# Altium schematic symbol library Nano_Schlib.SchLib: 19 symbols
Pins are listed as number, name and electrical type; pins without a type are passive.

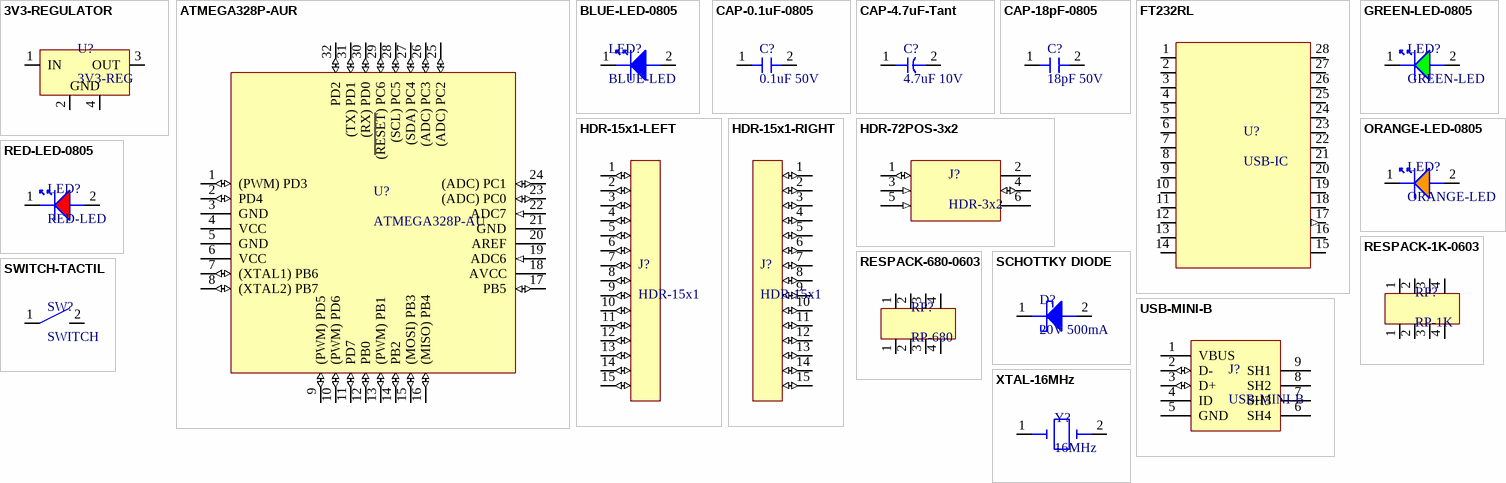
[diagram p0: symbols 3V3-REGULATOR to XTAL-16MHz]

## 3V3-REGULATOR
designator U?, comment 3V3-REG
500-mA, 30-V, linear voltage regulator 4-SOT-223 0 to 125; Manufacturer: Texas Instruments; Manufacturer Part Number: UA78M05CDCYRG3; Output Voltage: 5V; Dropout Voltage: 2V; Number of Outputs: 1; Min Input Voltage: 7V; Max Supply Voltage: 25V; Max Output current: 500mA; Polarity: Positive; Power Supply Rejection Ratio (PSRR): 80dB; Quiescent Current: 4.5mA; Output Type: Fixed; Supplier: Digi-Key; Supplier Part Number: 296-50456-1-ND; RoHS: Yes; Category: Voltage Regulators - Linear; Stock: 3750; Pricing: 1=0.68, 10=0.597, 25=0.5608, 100=0.4576, 250=0.42504, 500=0.36174, 1000=0.28939 (USD); Mounting Technology: Surface Mount; Case/Package: SOT-223-4; Pins: 4; Weight: 0.006632oz; Min Operating Temperature: -40°C; Max Operating Temperature: 125°C; Package Quantity: 2500; Packaging: Tape and Reel; Output Current: 500mA; Number of Regulators: 1; Series: UA78M05; Lead Free: Lead Free; RoHS Compliant: Yes; ComponentLink1URL: https://datasheet.ciiva.com/2060/ua78m05-2060145.pdf?src-supplier=Digi-Key; ComponentLink1Description: https://datasheet.ciiva.com/2060/ua78m05-2060145.pdf?src-supplier=Digi-Key
pins: 1 IN, 2 GND1, 3 OUT, 4 GND2
text: GND

## ATMEGA328P-AUR
designator U?, comment ATMEGA328P-AU
AVR AVR® ATmega Microcontroller IC 8-Bit 20MHz 32KB (16K x 16) FLASH 32-TQFP (7x7); Manufacturer: Microchip; Manufacturer Part Number: ATMEGA328P-AUR; Interface: I2C,SPI,UART,USART; Oscillator Type: Internal; Peripherals: Brown-out Detect/Reset,POR,PWM,WDT; Number of I/Os: 23; Core Architecture: PIC; Supplier: Digi-Key; Supplier Part Number: ATMEGA328P-AURCT-ND; RoHS: Yes; Category: Microcontrollers; Stock: 116906; Pricing: 1=2.88, 25=2.6672, 100=2.478 (USD); Mounting Technology: Surface Mount; Case/Package: TQFP; Pins: 32; Min Operating Temperature: -40°C; Max Operating Temperature: 85°C; Packaging: Cut Tape; Memory Format: FLASH; Memory Size: 32KB; Series: PIC® 18F; RoHS Compliant: Yes; ComponentLink1URL: http://components.arrow.com/part/dataview/48719204S8832641N3744?src-supplier=Arrow+Electronics; ComponentLink1Description: http://components.arrow.com/part/dataview/48719204S8832641N3744?src-supplier=Arrow+Electronics; ComponentLink2URL: http://www.farnell.com/datasheets/2047852.pdf?src-supplier=Farnell; ComponentLink2Description: http://www.farnell.com/datasheets/2047852.pdf?src-supplier=Farnell; ComponentLink3URL: http://www.microchip.com/mymicrochip/filehandler.aspx?ddocname=en608326&src-supplier=Digi-Key; ComponentLink3Description: http://www.microchip.com/mymicrochip/filehandler.aspx?ddocname=en608326&src-supplier=Digi-Key; ComponentLink4URL: http://www.microchip.com/mymicrochip/filehandler.aspx?ddocname=en589968&src-supplier=Digi-Key; ComponentLink4Description: http://www.microchip.com/mymicrochip/filehandler.aspx?ddocname=en589968&src-supplier=Digi-Key; ComponentLink5URL: http://www.farnell.com/datasheets/2047852.pdf?src-supplier=Element14; ComponentLink5Description: http://www.farnell.com/datasheets/2047852.pdf?src-supplier=Element14; ComponentLink6URL: https://datasheet.octopart.com/ATMEGA328P-AUR-Microchip-datasheet-14421303.pdf?src-supplier=Newark; ComponentLink6Description: https://datasheet.octopart.com/ATMEGA328P-AUR-Microchip-datasheet-14421303.pdf?src-supplier=Newark; ComponentLink7URL: http://www.farnell.com/datasheets/1693866.pdf?src-supplier=Newark; ComponentLink7Description: http://www.farnell.com/datasheets/1693866.pdf?src-supplier=Newark; ComponentLink8URL: https://datasheet.octopart.com/ATMEGA328P-AUR-Microchip-datasheet-133520744.pdf?src-supplier=LKR; ComponentLink8Description: https://datasheet.octopart.com/ATMEGA328P-AUR-Microchip-datasheet-133520744.pdf?src-supplier=LKR; ComponentLink9URL: https://datasheet.octopart.com/ATMEGA328P-AUR-Microchip-datasheet-68295846.pdf?src-supplier=SHENGYU+ELECTRONICS; ComponentLink9Description: https://datasheet.octopart.com/ATMEGA328P-AUR-Microchip-datasheet-68295846.pdf?src-supplier=SHENGYU+ELECTRONICS
footprint ATMEGA328P-AUR (CQFP, 32-Leads, Body 9.00x9.00mm, Pitch 0.80mm, IPC Medium Density)
pins: 1 (PWM) PD3 (io) "(PCINT19/OC2B/INT1)", 2 PD4 (io), 3 GND (power), 4 VCC (power), 5 GND (power), 6 VCC (power), 7 (XTAL1) PB6 (io), 8 (XTAL2) PB7 (io), 9 (PWM) PD5 (io), 10 (PWM) PD6 (io), 11 PD7 (io), 12 PB0 (io), 13 (PWM) PB1 (io), 14 PB2 (io), 15 (MOSI) PB3 (io), 16 (MISO) PB4 (io), 17 PB5 (io), 18 AVCC (power), 19 ADC6 (in), 20 AREF (power), 21 GND (power), 22 ADC7 (in), 23 (ADC) PC0 (io), 24 (ADC) PC1 (io), 25 (ADC) PC2 (io), 26 (ADC) PC3 (io), 27 (SDA) PC4 (io), 28 (SCL) PC5 (io), 29 (~{RESET}) PC6 (io), 30 (RX) PD0 (io), 31 (TX) PD1 (io), 32 PD2 (io)

## BLUE-LED-0805
designator LED?, comment BLUE-LED
APT2012QBC/D Blue LED; 465 nm 2012 (0805) Clear; Rectangle Lens SMD package; Manufacturer: Kingbright; Lens Color: Colorless,Clear; Forward Voltage: 3.3V; Viewing Angle: 120°; Lens Style: Flat,Clear; Forward Current: 20mA; Luminous Intensity: 100mcd; Dominant Wavelength: 465nm; Number of LEDs: 1; Supplier: Digi-Key; Supplier Part Number: 754-1437-1-ND; Manufacturer Part Number: APT2012QBC/D; RoHS: Yes; Category: LEDs; Stock: 36160; Pricing: 1=0.57, 10=0.354, 100=0.2033, 1000=0.15912 (USD); Mounting Technology: Surface Mount; Case/Package: 0805; Pins: 2; Color: Blue; Case Code (Metric): 2012; Case Code (Imperial): 0805; Min Operating Temperature: -40°C; Max Operating Temperature: 85°C; Package Quantity: 2000; Packaging: Tape and Reel; Illumination Color: Blue; Lens Transparency: Clear; Test Current: 20mA; Series: HELI2; Length: 2mm; Width: 1.25mm; Height: 0.75mm; Lead Free: Lead Free; RoHS Compliant: Yes; ComponentLink1URL: https://datasheet.ciiva.com/2114/apt2012qbc-d-2114342.pdf?src-supplier=Digi-Key; ComponentLink1Description: https://datasheet.ciiva.com/2114/apt2012qbc-d-2114342.pdf?src-supplier=Digi-Key; ComponentLink2URL: https://datasheet.ciiva.com/4689/apt2012qbc-d-72212-4689118.pdf?src-supplier=Mouser; ComponentLink2Description: https://datasheet.ciiva.com/4689/apt2012qbc-d-72212-4689118.pdf?src-supplier=Mouser; ComponentLink3URL: https://datasheet.ciiva.com/16415/apt2012qbc-d-16415447.pdf?src-supplier=Future+Electronics; ComponentLink3Description: https://datasheet.ciiva.com/16415/apt2012qbc-d-16415447.pdf?src-supplier=Future+Electronics; ComponentLink4URL: https://datasheet.ciiva.com/2114/apt2012qbc-d-2114343.pdf?src-supplier=Digi-Key; ComponentLink4Description: https://datasheet.ciiva.com/2114/apt2012qbc-d-2114343.pdf?src-supplier=Digi-Key; ComponentLink5URL: https://datasheet.ciiva.com/2114/apt2012qbc-d-2114344.pdf?src-supplier=Digi-Key; ComponentLink5Description: https://datasheet.ciiva.com/2114/apt2012qbc-d-2114344.pdf?src-supplier=Digi-Key
pins: 1, 2

## CAP-0.1uF-0805
designator C?, comment 0.1uF 50V
CAP CER 0.1UF 50V X7R 0805; Manufacturer: Samsung; Manufacturer Part Number: CL21B104KBCNNNC; Material: Ceramic; Tolerance: 10%; Value: 100nF; Supplier: Digi-Key; Supplier Part Number: 1276-1003-1-ND; RoHS: Yes; Category: Ceramic Capacitors; Stock: 959764; Pricing: 1=0.1, 10=0.044, 50=0.024, 100=0.0196, 500=0.01404, 1000=0.01103 (USD); Mounting Technology: Surface Mount; Case/Package: 0805; Case Code (Metric): 2012; Case Code (Imperial): 0805; Min Operating Temperature: -55°C; Max Operating Temperature: 125°C; Packaging: Tape and Reel; Voltage Rating: 50V; Dielectric: X7R; Voltage: 50V; Voltage Rating (DC): 50V; Series: CL; Construction: Flat; Length: 2mm; Width: 0.049inch; Height: 0.85mm; Thickness: 0.037inch; Depth: 1.25mm; Radiation Hardening: No; Lead Free: Lead Free; RoHS Compliant: Yes; ComponentLink1URL: https://datasheet.ciiva.com/25710/cl21b104kbcnnnc-25710182.pdf?src-supplier=Digi-Key; ComponentLink1Description: https://datasheet.ciiva.com/25710/cl21b104kbcnnnc-25710182.pdf?src-supplier=Digi-Key; ComponentLink2URL: https://datasheet.ciiva.com/29199/454152-da-01-en-vs-kondensator-0805-29199814.pdf?src-supplier=Conrad; ComponentLink2Description: https://datasheet.ciiva.com/29199/454152-da-01-en-vs-kondensator-0805-29199814.pdf?src-supplier=Conrad
pins: 1, 2

## CAP-4.7uF-Tant
designator C?, comment 4.7uF 10V
Cap Tant Solid 4.7uF 10V A CASE 10% (3.2 X 1.6 X 1.6mm) Inward L SMD 3216-18 4 Ohm 125C Automotive T/R; Manufacturer: KEMET; Manufacturer Part Number: T491A475K010AT7280; ESR (Equivalent Series Resistance): 5R; Supplier: Digi-Key; Supplier Part Number: 399-18026-1-ND; RoHS: Yes; Category: Tantalum Capacitors; Stock: 15725; Pricing: 1=0.44, 10=0.309, 50=0.2332, 100=0.2032, 500=0.15048, 1000=0.12792, 2500=0.12039 (USD); Case/Package: 1206; Case Code (Imperial): 1206; Case Code (Metric): 3216; Weight: 0.000571oz; Min Operating Temperature: -55°C; Max Operating Temperature: 125°C; Voltage Rating: 10V; Tolerance: 10%; Packaging: Tape and Reel; Value: 4.7uF; Termination: SMD/SMT; Series: T491; Construction: Flat; Length: 3.2mm; Width: 1.6mm; Height: 1.8mm; Depth: 1.6mm; Radiation Hardening: No; Lead Free: Lead Free; RoHS Compliant: Yes; ComponentLink1URL: https://datasheet.ciiva.com/12885/kem-t2005-t491-12885625.pdf?src-supplier=Mouser; ComponentLink1Description: https://datasheet.ciiva.com/12885/kem-t2005-t491-12885625.pdf?src-supplier=Mouser
pins: 1, 2

## CAP-18pF-0805
designator C?, comment 18pF 50V
Cap Cer 0805 18PF 50V Ultra Stab; Manufacturer: KEMET; Manufacturer Part Number: C0805C180J5HAC7800; Supplier: Digi-Key; Supplier Part Number: 399-C0805C180J5HAC7800CT-ND; RoHS: Yes; Category: Ceramic Capacitors; Stock: 27661; Pricing: 1=0.1, 10=0.073, 50=0.04, 100=0.0327, 500=0.02334, 1000=0.01833 (USD)
pins: 1, 2

## FT232RL
designator U?, comment USB-IC
IC USB FS SERIAL UART 28-SSOP; Manufacturer: FTDI; Manufacturer Part Number: FT232RL-REEL; Interface: UART,RS-232,RS-422,RS-485; Number of Channels: 1; Max Supply Voltage: 5.25V; Min Supply Voltage: 3.3V; Data Rate: 12Mbps; Operating Supply Current: 15mA; Voltage: 5V; Supplier: Digi-Key; Supplier Part Number: 768-1007-1-ND; RoHS: Yes; Category: Interface ICs; Pricing: 1=4.8, 10=4.35, 50=4.15, 100=3.95, 250=3.55, 500=3.15, 1000=2.95 (USD); Mounting Technology: Surface Mount; Case/Package: SSOP; Pins: 28; Weight: 0.080001oz; Min Operating Temperature: -40°C; Max Operating Temperature: 85°C; Packaging: Tape and Reel; Package Quantity: 1; Series: USBmadeEZ-UART; Number of Transceivers: 1; Length: 10.2mm; Width: 5.3mm; Height: 1.75mm; Radiation Hardening: No; Reach SVHC Compliant: No; Lead Free: Lead Free; RoHS Compliant: Yes; ComponentLink1URL: https://datasheet.ciiva.com/4787/ds-ft232r-11534-4787658.pdf?src-supplier=Mouser; ComponentLink1Description: https://datasheet.ciiva.com/4787/ds-ft232r-11534-4787658.pdf?src-supplier=Mouser; ComponentLink2URL: https://datasheet.ciiva.com/34304/2161019-34304054.pdf?src-supplier=Jameco; ComponentLink2Description: https://datasheet.ciiva.com/34304/2161019-34304054.pdf?src-supplier=Jameco; ComponentLink3URL: https://datasheet.ciiva.com/16200/ds-ft232r-16200652.pdf?src-supplier=Future+Electronics; ComponentLink3Description: https://datasheet.ciiva.com/16200/ds-ft232r-16200652.pdf?src-supplier=Future+Electronics; ComponentLink4URL: https://datasheet.ciiva.com/1787/ds-ft232r-1787047.pdf?src-supplier=Digi-Key; ComponentLink4Description: https://datasheet.ciiva.com/1787/ds-ft232r-1787047.pdf?src-supplier=Digi-Key; ComponentLink5URL: https://datasheet.ciiva.com/1787/ds-ft232r-1787048.pdf?src-supplier=Digi-Key; ComponentLink5Description: https://datasheet.ciiva.com/1787/ds-ft232r-1787048.pdf?src-supplier=Digi-Key; ComponentLink6URL: https://datasheet.ciiva.com/1787/ds-ft232r-1787049.pdf?src-supplier=Digi-Key; ComponentLink6Description: https://datasheet.ciiva.com/1787/ds-ft232r-1787049.pdf?src-supplier=Digi-Key; ComponentLink7URL: https://datasheet.ciiva.com/15150/getdatasheetpartid-643207-15150506.pdf?src-supplier=Verical; ComponentLink7Description: https://datasheet.ciiva.com/15150/getdatasheetpartid-643207-15150506.pdf?src-supplier=Verical
pins: 1 TXD, 2 DTR#, 3 RTS#, 4 VCCIO, 5 RXD, 6 RI#, 7 GND1 (power), 8 NC1, 9 DSR#, 10 DCD#, 11 CTS#, 12 CBUS4, 13 CBUS2, 14 CBUS3, 15 USBDP, 16 USBDM, 17 3V3OUT (out), 18 GND2 (power), 19 RESET#, 20 VCC (power), 21 GND3 (power), 22 CBUS1, 23 CBUS0, 24 NC2, 25 AGND (power), 26 TEST, 27 OSCI, 28 OSCO

## GREEN-LED-0805
designator LED?, comment GREEN-LED
APT2012SGC Green LED; 568 nm 2012 (0805) Clear; Rectangle Lens SMD package; Manufacturer: Kingbright; Lens Color: Colorless,Clear; Viewing Angle: 120°; Lens Style: Clear,Flat; Forward Current: 20mA; Forward Voltage: 2.2V; Power Rating: 62.5mW; Luminous Intensity: 12mcd; Dominant Wavelength: 568nm; Number of LEDs: 1; Lens Size: 1.25mm; Supplier: Digi-Key; Supplier Part Number: 754-1131-1-ND; Manufacturer Part Number: APT2012SGC; RoHS: Yes; Category: LEDs; Stock: 165570; Pricing: 1=0.3, 10=0.237, 100=0.1064, 500=0.0961, 1000=0.07894 (USD); Mounting Technology: Surface Mount; Case/Package: 0805; Pins: 2; Color: Green; Case Code (Metric): 2012; Case Code (Imperial): 0805; Min Operating Temperature: -40°C; Max Operating Temperature: 85°C; Package Quantity: 2000; Packaging: Tape and Reel; Illumination Color: Green; Test Current: 20mA; Wavelength: 568nm; Series: -; Lens Transparency: Clear; Length: 2mm; Width: 1.25mm; Height: 0.75mm; Lead Free: Lead Free; RoHS Compliant: Yes; ComponentLink1URL: https://datasheet.ciiva.com/4689/apt2012sgc-36968-4689173.pdf?src-supplier=Mouser; ComponentLink1Description: https://datasheet.ciiva.com/4689/apt2012sgc-36968-4689173.pdf?src-supplier=Mouser; ComponentLink2URL: https://datasheet.ciiva.com/2113/apt2012sgc-2113809.pdf?src-supplier=Digi-Key; ComponentLink2Description: https://datasheet.ciiva.com/2113/apt2012sgc-2113809.pdf?src-supplier=Digi-Key; ComponentLink3URL: https://datasheet.ciiva.com/16293/apt2012sgc-16293319.pdf?src-supplier=Future+Electronics; ComponentLink3Description: https://datasheet.ciiva.com/16293/apt2012sgc-16293319.pdf?src-supplier=Future+Electronics; ComponentLink4URL: https://datasheet.ciiva.com/2113/apt2012sgc-2113810.pdf?src-supplier=Digi-Key; ComponentLink4Description: https://datasheet.ciiva.com/2113/apt2012sgc-2113810.pdf?src-supplier=Digi-Key; ComponentLink5URL: https://datasheet.ciiva.com/2113/apt2012sgc-2113811.pdf?src-supplier=Digi-Key; ComponentLink5Description: https://datasheet.ciiva.com/2113/apt2012sgc-2113811.pdf?src-supplier=Digi-Key
pins: 1, 2

## HDR-15x1-LEFT
designator J?, comment HDR-15x1
Conn Unshrouded Header HDR 36 POS 2.54mm Solder ST Top Entry Thru-Hole BergStik® Bulk; Manufacturer: Amphenol ICC / FCI; Manufacturer Part Number: 68000-136HLF; Current Rating: 3A; Voltage Rating: 1.5kV; Number of Positions: 36; Insulation Resistance: 5GR; Gender: Male; Contact Post Length: 2.41mm; Supplier: Digi-Key; Supplier Part Number: 609-3501-ND; RoHS: Yes; Category: Headers and Wire Housings; Stock: 97; Pricing: 1=2.27, 10=1.979, 100=1.7685, 500=1.47374, 1000=1.26321, 5000=1.12004 (USD); Mounting Technology: Through Hole; Contact Plating: Gold,GXT; Contact Material: Bronze; Color: Black; Housing Color: Black; Housing Material: Thermoplastic; Min Operating Temperature: -65°C; Max Operating Temperature: 125°C; Number of Rows: 1; Package Quantity: 100; Packaging: Bulk; Contact Gender: Male; Termination: Solder; Max Voltage Rating (AC): 1.5kV; Number of Contacts: 36; Orientation: Straight; Series: BERGSTIK® II, MezzSelect™, Basics+; Contact Type: Male Pin; Length: 91.44mm; Pitch: 2.54mm; Contact Mating Length: 0.23inch; Depth: 2.41mm; Lead Free: Lead Free; Flammability Rating: UL94 V-0; ComponentLink1URL: https://datasheet.ciiva.com/10118/68000-10118998.pdf?src-supplier=Avnet; ComponentLink1Description: https://datasheet.ciiva.com/10118/68000-10118998.pdf?src-supplier=Avnet; ComponentLink2URL: https://datasheet.ciiva.com/720/68000-720036.pdf?src-supplier=Digi-Key; ComponentLink2Description: https://datasheet.ciiva.com/720/68000-720036.pdf?src-supplier=Digi-Key
pins: 1 (io), 2 (io), 3 (io), 4 (io), 5 (io), 6 (io), 7 (io), 8 (io), 9 (io), 10 (io), 11 (io), 12 (io), 13 (io), 14 (io), 15 (io)

## HDR-15x1-RIGHT
designator J?, comment HDR-15x1
Conn Unshrouded Header HDR 36 POS 2.54mm Solder ST Top Entry Thru-Hole BergStik® Bulk; Manufacturer: Amphenol ICC / FCI; Manufacturer Part Number: 68000-136HLF; Current Rating: 3A; Voltage Rating: 1.5kV; Number of Positions: 36; Insulation Resistance: 5GR; Gender: Male; Contact Post Length: 2.41mm; Supplier: Digi-Key; Supplier Part Number: 609-3501-ND; RoHS: Yes; Category: Headers and Wire Housings; Stock: 97; Pricing: 1=2.27, 10=1.979, 100=1.7685, 500=1.47374, 1000=1.26321, 5000=1.12004 (USD); Mounting Technology: Through Hole; Contact Plating: Gold,GXT; Contact Material: Bronze; Color: Black; Housing Color: Black; Housing Material: Thermoplastic; Min Operating Temperature: -65°C; Max Operating Temperature: 125°C; Number of Rows: 1; Package Quantity: 100; Packaging: Bulk; Contact Gender: Male; Termination: Solder; Max Voltage Rating (AC): 1.5kV; Number of Contacts: 36; Orientation: Straight; Series: BERGSTIK® II, MezzSelect™, Basics+; Contact Type: Male Pin; Length: 91.44mm; Pitch: 2.54mm; Contact Mating Length: 0.23inch; Depth: 2.41mm; Lead Free: Lead Free; Flammability Rating: UL94 V-0; ComponentLink1URL: https://datasheet.ciiva.com/10118/68000-10118998.pdf?src-supplier=Avnet; ComponentLink1Description: https://datasheet.ciiva.com/10118/68000-10118998.pdf?src-supplier=Avnet; ComponentLink2URL: https://datasheet.ciiva.com/720/68000-720036.pdf?src-supplier=Digi-Key; ComponentLink2Description: https://datasheet.ciiva.com/720/68000-720036.pdf?src-supplier=Digi-Key
pins: 1 (io), 2 (io), 3 (io), 4 (io), 5 (io), 6 (io), 7 (io), 8 (io), 9 (io), 10 (io), 11 (io), 12 (io), 13 (io), 14 (io), 15 (io)

## HDR-72POS-3x2
designator J?, comment HDR-3x2
Conn Unshrouded Header HDR 72 POS 2.54mm Solder ST Top Entry Thru-Hole BergStik® Bulk; Manufacturer: Amphenol ICC / FCI; Manufacturer Part Number: 67996-272HLF; Number of Positions: 72; Current Rating: 3A; Insulation Resistance: 5GR; Voltage Rating: 1.5kV; Row Spacing: 0.1inch; Contact Post Length: 2.41mm; Approvals: UL,CSA; Supplier: Digi-Key; Supplier Part Number: 609-3493-ND; RoHS: No; Category: Headers and Wire Housings; Stock: 2477; Pricing: 1=3.22, 10=2.924, 100=2.5759, 500=2.18952, 1000=1.86753, 5000=1.67434 (USD); Mounting Technology: Through Hole; Contact Plating: Gold,GXT; Color: Black; Contact Material: Bronze; Housing Material: Thermoplastic; Housing Color: Black; Min Operating Temperature: -65°C; Max Operating Temperature: 125°C; Series: BergStik; Packaging: Bulk; Contact Type: Male Pin; Number of Rows: 2; Termination: Solder; Contact Gender: Male; Package Quantity: 100; Number of Contacts: 72; Orientation: Straight; Max Voltage Rating (AC): 1.5kV; Length: 91.44mm; Pitch: 2.54mm; Contact Mating Length: 0.23inch; Depth: 4.83mm; Flammability Rating: UL94 V-0; Reach SVHC Compliant: No; ComponentLink1URL: http://uk.rs-online.com/webdocs/1450/0900766b81450b61.pdf?src-supplier=Rs; ComponentLink1Description: http://uk.rs-online.com/webdocs/1450/0900766b81450b61.pdf?src-supplier=Rs; ComponentLink2URL: http://portal.fciconnect.com/Comergent/fci/drawing/67996.pdf?src-supplier=Avnet; ComponentLink2Description: http://portal.fciconnect.com/Comergent/fci/drawing/67996.pdf?src-supplier=Avnet; ComponentLink3URL: https://datasheet.octopart.com/67996-272HLF-FCI-datasheet-10288749.pdf?src-supplier=Farnell; ComponentLink3Description: https://datasheet.octopart.com/67996-272HLF-FCI-datasheet-10288749.pdf?src-supplier=Farnell; ComponentLink4URL: https://www.alliedelec.com/m/d/a0f7a1aeec31fa744d37645d635f3042.pdf?src-supplier=Allied+Electronics; ComponentLink4Description: https://www.alliedelec.com/m/d/a0f7a1aeec31fa744d37645d635f3042.pdf?src-supplier=Allied+Electronics; ComponentLink5URL: http://components.arrow.com/part/dataview/41913610S7894672N8314?src-supplier=Arrow+Electronics; ComponentLink5Description: http://components.arrow.com/part/dataview/41913610S7894672N8314?src-supplier=Arrow+Electronics; ComponentLink6URL: http://portal.fciconnect.com/Comergent//fci/drawing/67996.pdf?src-supplier=Digi-Key; ComponentLink6Description: http://portal.fciconnect.com/Comergent//fci/drawing/67996.pdf?src-supplier=Digi-Key; ComponentLink7URL: http://portal.fciconnect.com/Comergent//fci/drawing/67996.pdf?src-supplier=Element14; ComponentLink7Description: http://portal.fciconnect.com/Comergent//fci/drawing/67996.pdf?src-supplier=Element14; ComponentLink8URL: http://www.mouser.com/ds/2/154/67996-225308.pdf?src-supplier=Mouser; ComponentLink8Description: http://www.mouser.com/ds/2/154/67996-225308.pdf?src-supplier=Mouser; ComponentLink9URL: https://datasheet.octopart.com/67996-272HLF-FCI-datasheet-36854132.pdf?src-supplier=Electro+Sonic; ComponentLink9Description: https://datasheet.octopart.com/67996-272HLF-FCI-datasheet-36854132.pdf?src-supplier=Electro+Sonic; ComponentLink10URL: https://datasheet.octopart.com/67996-272HLF-FCI-datasheet-36854132.pdf?src-supplier=Master+Electronics; ComponentLink10Description: https://datasheet.octopart.com/67996-272HLF-FCI-datasheet-36854132.pdf?src-supplier=Master+Electronics
pins: 1 (io), 2 (power), 3 (in), 4 (io), 5 (in), 6 (power)

## ORANGE-LED-0805
designator LED?, comment ORANGE-LED
APT2012SECK Orange LED; 601 nm 2012 (0805) Clear; Rectangle Lens SMD package; Manufacturer: Kingbright; Viewing Angle: 120°; Lens Style: Clear,Flat; Forward Current: 20mA; Forward Voltage: 2.1V; Power Rating: 75mW; Luminous Intensity: 240mcd; Dominant Wavelength: 601nm; Number of LEDs: 1; Supplier: Digi-Key; Supplier Part Number: 754-1130-1-ND; Manufacturer Part Number: APT2012SECK; RoHS: Yes; Category: LEDs; Stock: 19453; Pricing: 1=0.3, 10=0.237, 100=0.1064, 500=0.0961, 1000=0.07894 (USD); Mounting Technology: Surface Mount; Case/Package: 0805; Pins: 2; Color: Orange; Case Code (Metric): 2012; Case Code (Imperial): 0805; Lens Color: Clear; Min Operating Temperature: -40°C; Max Operating Temperature: 85°C; Package Quantity: 2000; Packaging: Tape and Reel; Illumination Color: Orange; Test Current: 20mA; Wavelength: 601nm; Series: APT; Length: 2mm; Width: 1.25mm; Height: 0.75mm; Lead Free: Lead Free; RoHS Compliant: Yes; ComponentLink1URL: https://datasheet.ciiva.com/12400/apt2012seck-43020-12400700.pdf?src-supplier=Mouser; ComponentLink1Description: https://datasheet.ciiva.com/12400/apt2012seck-43020-12400700.pdf?src-supplier=Mouser; ComponentLink2URL: https://datasheet.ciiva.com/2113/apt2012seck-2113858.pdf?src-supplier=Digi-Key; ComponentLink2Description: https://datasheet.ciiva.com/2113/apt2012seck-2113858.pdf?src-supplier=Digi-Key; ComponentLink3URL: https://datasheet.ciiva.com/2113/apt2012seck-2113859.pdf?src-supplier=Digi-Key; ComponentLink3Description: https://datasheet.ciiva.com/2113/apt2012seck-2113859.pdf?src-supplier=Digi-Key; ComponentLink4URL: https://datasheet.ciiva.com/2113/apt2012seck-2113860.pdf?src-supplier=Digi-Key; ComponentLink4Description: https://datasheet.ciiva.com/2113/apt2012seck-2113860.pdf?src-supplier=Digi-Key; ComponentLink5URL: https://datasheet.ciiva.com/14605/70062848-14605309.pdf?src-supplier=Allied+Electronics; ComponentLink5Description: https://datasheet.ciiva.com/14605/70062848-14605309.pdf?src-supplier=Allied+Electronics; ComponentLink6URL: https://datasheet.ciiva.com/16415/apt2012seck-16415421.pdf?src-supplier=Future+Electronics; ComponentLink6Description: https://datasheet.ciiva.com/16415/apt2012seck-16415421.pdf?src-supplier=Future+Electronics
pins: 1, 2

## RED-LED-0805
designator LED?, comment RED-LED
LED Low-Power Uni-Color Hyper Red 645nm 2.2V 2-Pin Chip LED T/R; Manufacturer: Kingbright; Manufacturer Part Number: APT2012SURCK; Power Rating: 75mW; Luminous Intensity: 220mcd; Viewing Angle: 120°; Lens Style: Clear; Forward Voltage: 1.95V; Forward Current: 20mA; Dominant Wavelength: 630nm; Wavelength: 635nm; Supplier: Digi-Key; Supplier Part Number: 754-1133-1-ND; RoHS: Yes; Category: LEDs; Stock: 56404; Pricing: 1=0.3, 10=0.237, 100=0.1064, 500=0.0961, 1000=0.07894 (USD); Mounting Technology: Surface Mount; Case/Package: 0805; Color: Red; Case Code (Metric): 2012; Case Code (Imperial): 0805; Min Operating Temperature: -40°C; Max Operating Temperature: 85°C; Packaging: Tape and Reel; Package Quantity: 2000; Illumination Color: Red; Test Current: 20mA; Length: 2mm; Width: 1.25mm; Height: 0.75mm; Lead Free: Lead Free; RoHS Compliant: Yes; ComponentLink1URL: https://datasheet.ciiva.com/16415/apt2012surck-16415425.pdf?src-supplier=Future+Electronics; ComponentLink1Description: https://datasheet.ciiva.com/16415/apt2012surck-16415425.pdf?src-supplier=Future+Electronics; ComponentLink2URL: https://datasheet.ciiva.com/4689/apt2012surck-41297-4689448.pdf?src-supplier=Mouser; ComponentLink2Description: https://datasheet.ciiva.com/4689/apt2012surck-41297-4689448.pdf?src-supplier=Mouser; ComponentLink3URL: https://datasheet.ciiva.com/2113/apt2012surck-2113835.pdf?src-supplier=Digi-Key; ComponentLink3Description: https://datasheet.ciiva.com/2113/apt2012surck-2113835.pdf?src-supplier=Digi-Key; ComponentLink4URL: https://datasheet.ciiva.com/2113/apt2012surck-2113836.pdf?src-supplier=Digi-Key; ComponentLink4Description: https://datasheet.ciiva.com/2113/apt2012surck-2113836.pdf?src-supplier=Digi-Key
pins: 1, 2

## RESPACK-1K-0603
designator RP?, comment RP-1K
Res Thick Film Array 1KOhm 5% 200ppm/C ISOL Epoxy 8-Pin 1206(4 X 0603) Convex SMD T/R; Manufacturer: Yageo; Manufacturer Part Number: YC164-JR-071KL; Temperature Coefficient: 200ppm/°C; Value: 1kR; Number of Resistors: 4; Working Voltage: 50V; Circuit Type: Isolated; Power Per Element: 62.5mW; Number of Contacts: 8; Supplier: Digi-Key; Supplier Part Number: YC164J-1.0KCT-ND; RoHS: Yes; Category: Resistor Arrays; Stock: 238696; Pricing: 1=0.1, 10=0.087, 25=0.0604, 50=0.047, 100=0.0336, 250=0.02624, 500=0.02086, 1000=0.0148 (USD); Mounting Technology: Surface Mount; Case/Package: 0603; Pins: 8; Case Code (Metric): 3216; Case Code (Imperial): 1206; Min Operating Temperature: -55°C; Max Operating Temperature: 155°C; Tolerance: 5%; Packaging: Cut Tape; Number of Circuits: 4; Voltage Rating: 50V; Number of Elements: 4; Package Quantity: 1; Power Dissipation: 62.5mW; Series: YC164; Technology: THICK FILM; Resistance Tolerance: 5%; Length: 0.126inch; Width: 0.063inch; Height: 0.028inch; RoHS Compliant: Yes; Lead Free: Lead Free; Reach SVHC Compliant: Unknown; ComponentLink1URL: https://datasheet.ciiva.com/7620/443424-7620735.pdf?src-supplier=Element14; ComponentLink1Description: https://datasheet.ciiva.com/7620/443424-7620735.pdf?src-supplier=Element14; ComponentLink2URL: https://datasheet.ciiva.com/2694/pyu-yc-tc164-51-rohs-l-3-2694463.pdf?src-supplier=Digi-Key; ComponentLink2Description: https://datasheet.ciiva.com/2694/pyu-yc-tc164-51-rohs-l-3-2694463.pdf?src-supplier=Digi-Key; ComponentLink3URL: https://datasheet.ciiva.com/2694/pyu-yc-tc164-51-rohs-l-3-2694464.pdf?src-supplier=Digi-Key; ComponentLink3Description: https://datasheet.ciiva.com/2694/pyu-yc-tc164-51-rohs-l-3-2694464.pdf?src-supplier=Digi-Key; ComponentLink4URL: https://datasheet.ciiva.com/2694/pyu-yc-tc164-51-rohs-l-3-2694465.pdf?src-supplier=Digi-Key; ComponentLink4Description: https://datasheet.ciiva.com/2694/pyu-yc-tc164-51-rohs-l-3-2694465.pdf?src-supplier=Digi-Key; ComponentLink5URL: https://datasheet.ciiva.com/17051/pyu-yc-tc164-51-rohs-l-3-17051807.pdf?src-supplier=Future+Electronics; ComponentLink5Description: https://datasheet.ciiva.com/17051/pyu-yc-tc164-51-rohs-l-3-17051807.pdf?src-supplier=Future+Electronics
pins: 1 1IN, 1 1OUT, 2 2IN, 2 2OUT, 3 3IN, 3 3OUT, 4 4IN, 4 4OUT

## RESPACK-680-0603
designator RP?, comment RP-680
Res Thick Film Array 680 Ohm 5% 200ppm/ C ISOL Molded 8-Pin 1206(4 X 0603) Convex SMD Paper T/R; Manufacturer: Yageo; Manufacturer Part Number: YC164-JR-07680RL; Value: 680R; Number of Elements: 4; Voltage Rating: 50V; Circuit Type: Isolated; Power Per Element: 62.5mW; Temperature Coefficient: 200ppm/°C; Number of Contacts: 8; Supplier: Digi-Key; Supplier Part Number: YC164J-680CT-ND; RoHS: Yes; Category: Resistor Arrays; Stock: 88798; Pricing: 1=0.1, 10=0.087, 25=0.0604, 50=0.047, 100=0.0336, 250=0.02624, 500=0.02086, 1000=0.0148 (USD); Mounting Technology: Surface Mount; Case/Package: 0603; Pins: 8; Case Code (Metric): 3216; Case Code (Imperial): 1206; Min Operating Temperature: -55°C; Max Operating Temperature: 155°C; Series: YC164; Tolerance: 5%; Package Quantity: 1; Packaging: Cut Tape; Number of Resistors: 4; Power Dissipation: 62.5mW; Working Voltage: 50V; Number of Circuits: 4; Resistance Tolerance: 5%; Length: 0.126inch; Width: 0.063inch; Height: 0.028inch; RoHS Compliant: Yes; Lead Free: Lead Free; Reach SVHC Compliant: Unknown; ComponentLink1URL: https://datasheet.ciiva.com/17201/pyu-yc-tc164-51-rohs-l-3-17201830.pdf?src-supplier=Future+Electronics; ComponentLink1Description: https://datasheet.ciiva.com/17201/pyu-yc-tc164-51-rohs-l-3-17201830.pdf?src-supplier=Future+Electronics; ComponentLink2URL: https://datasheet.ciiva.com/2688/pyu-yc-tc164-51-rohs-l-3-2688403.pdf?src-supplier=Digi-Key; ComponentLink2Description: https://datasheet.ciiva.com/2688/pyu-yc-tc164-51-rohs-l-3-2688403.pdf?src-supplier=Digi-Key; ComponentLink3URL: https://datasheet.ciiva.com/2688/pyu-yc-tc164-51-rohs-l-3-2688404.pdf?src-supplier=Digi-Key; ComponentLink3Description: https://datasheet.ciiva.com/2688/pyu-yc-tc164-51-rohs-l-3-2688404.pdf?src-supplier=Digi-Key; ComponentLink4URL: https://datasheet.ciiva.com/2688/pyu-yc-tc164-51-rohs-l-3-2688405.pdf?src-supplier=Digi-Key; ComponentLink4Description: https://datasheet.ciiva.com/2688/pyu-yc-tc164-51-rohs-l-3-2688405.pdf?src-supplier=Digi-Key
pins: 1 1IN, 1 1OUT, 2 2IN, 2 2OUT, 3 3IN, 3 3OUT, 4 4IN, 4 4OUT

## SCHOTTKY DIODE
designator D?, comment 20V 500mA
ON Semi NSR0520V2T1G; SMT Schottky Diode; 20V dc 500mA; 12ns; 2-Pin SOD-523; Manufacturer: ON Semiconductor; Max Surge Current: 2A; Forward Voltage: 480mV; Max Reverse Current: 30uA; Element Configuration: Single; Supplier: Digi-Key; Supplier Part Number: NSR0520V2T1GOSCT-ND; Manufacturer Part Number: NSR0520V2T1G; RoHS: Yes; Category: Schottky Diodes; Stock: 42323; Pricing: 1=0.43, 10=0.324, 100=0.1832, 500=0.12134, 1000=0.09303 (USD); Case/Package: SOD-523-2; Pins: 2; Min Operating Temperature: -55°C; Max Operating Temperature: 125°C; Forward Current: 500mA; Package Quantity: 3000; Recovery Time: 12ns; Packaging: Tape and Reel; Max Reverse Leakage Current: 30uA; Average Rectified Current: 500mA; Reverse Recovery Time: 12ns; Max Repetitive Reverse Voltage (Vrrm): 20V; Peak Non-Repetitive Surge Current: 2A; Max Forward Surge Current (Ifsm): 2A; Max Reverse Voltage (DC): 20V; Series: -; Length: 1.3mm; Width: 0.9mm; Height: 0.7mm; Radiation Hardening: No; Reach SVHC Compliant: No; Lead Free: Lead Free; RoHS Compliant: Yes; ComponentLink1URL: https://datasheet.ciiva.com/4244/567nsr0520v2t1-d-4244811.pdf?src-supplier=Arrow+Electronics; ComponentLink1Description: https://datasheet.ciiva.com/4244/567nsr0520v2t1-d-4244811.pdf?src-supplier=Arrow+Electronics; ComponentLink2URL: https://datasheet.ciiva.com/915/nsr0520v2t1-d-915544.pdf?src-supplier=Digi-Key; ComponentLink2Description: https://datasheet.ciiva.com/915/nsr0520v2t1-d-915544.pdf?src-supplier=Digi-Key; ComponentLink3URL: https://datasheet.ciiva.com/23721/1749675-23721976.pdf?src-supplier=Newark; ComponentLink3Description: https://datasheet.ciiva.com/23721/1749675-23721976.pdf?src-supplier=Newark; ComponentLink4URL: https://datasheet.ciiva.com/30479/0900766b81276b11-30479644.pdf?src-supplier=Rs; ComponentLink4Description: https://datasheet.ciiva.com/30479/0900766b81276b11-30479644.pdf?src-supplier=Rs; ComponentLink5URL: https://datasheet.ciiva.com/4713/nsr0520v2t1-d-118982-4713972.pdf?src-supplier=Mouser; ComponentLink5Description: https://datasheet.ciiva.com/4713/nsr0520v2t1-d-118982-4713972.pdf?src-supplier=Mouser; ComponentLink6URL: https://datasheet.ciiva.com/8293/nsr0520v2t1-d-8293885.pdf?src-supplier=Avnet; ComponentLink6Description: https://datasheet.ciiva.com/8293/nsr0520v2t1-d-8293885.pdf?src-supplier=Avnet
pins: 1, 2

## SWITCH-TACTIL
designator SW?, comment SWITCH
Switch Tactile N.O. SPST Round Button Gull Wing 0.05A 12VDC 1.5N SMD Embossed T/R; Manufacturer: Omron; Manufacturer Part Number: B3U-1000P; Mechanical Life: 200000Cycles; Voltage Rating (DC): 12V; Current Rating: 50mA; Contact Resistance: 100mR; Illumination Type: Non-Illuminated,Illuminated; Switch Travel: 0.15mm; Switch Function: Off-Mom; Actuator Type: Standard; Actuator Length: 0.4mm; Ratings: Dust Proof,IP40; Supplier: Digi-Key; Supplier Part Number: SW1020CT-ND; RoHS: Yes; Category: Tactile Switches; Stock: 66177; Pricing: 1=1.02, 10=0.983, 25=0.9188, 100=0.7977, 250=0.72584, 500=0.67292, 1000=0.62377 (USD); Mounting Technology: Surface Mount; Weight: 0.000776oz; Contact Material: Silver; Min Operating Temperature: -25°C; Max Operating Temperature: 70°C; Packaging: Tape and Reel; Package Quantity: 1; Series: B3U; Operating Force: 1.5N; Throw Configuration: SPST; Termination: SMD/SMT; Orientation: Straight; Max Current Rating: 50mA; Max Voltage Rating (DC): 12V; Electrical Life: 200000Cycles; Insulation Resistance: 100MR; Contact Current Rating: 50mA; Length: 4mm; Width: 3mm; Height: 1.2mm; Depth: 2.5mm; RoHS Compliant: Yes; Lead Free: Lead Free; Reach SVHC Compliant: Unknown; ComponentLink1URL: https://datasheet.ciiva.com/26917/getdatasheetpartid-552554-26917552.pdf?src-supplier=Verical; ComponentLink1Description: https://datasheet.ciiva.com/26917/getdatasheetpartid-552554-26917552.pdf?src-supplier=Verical; ComponentLink2URL: https://datasheet.ciiva.com/22696/1685550-22696214.pdf?src-supplier=Element14; ComponentLink2Description: https://datasheet.ciiva.com/22696/1685550-22696214.pdf?src-supplier=Element14; ComponentLink3URL: https://datasheet.ciiva.com/16155/en-b3u-16155021.pdf?src-supplier=Onlinecomponents.com; ComponentLink3Description: https://datasheet.ciiva.com/16155/en-b3u-16155021.pdf?src-supplier=Onlinecomponents.com; ComponentLink4URL: https://datasheet.ciiva.com/2900/b3u-1110-2900029.pdf?src-supplier=Digi-Key; ComponentLink4Description: https://datasheet.ciiva.com/2900/b3u-1110-2900029.pdf?src-supplier=Digi-Key; ComponentLink5URL: https://datasheet.ciiva.com/2900/b3u-1110-2900030.pdf?src-supplier=Digi-Key; ComponentLink5Description: https://datasheet.ciiva.com/2900/b3u-1110-2900030.pdf?src-supplier=Digi-Key; ComponentLink6URL: https://datasheet.ciiva.com/2900/b3u-1110-2900031.pdf?src-supplier=Digi-Key; ComponentLink6Description: https://datasheet.ciiva.com/2900/b3u-1110-2900031.pdf?src-supplier=Digi-Key; ComponentLink7URL: https://datasheet.ciiva.com/16862/70176037-16862846.pdf?src-supplier=Allied+Electronics; ComponentLink7Description: https://datasheet.ciiva.com/16862/70176037-16862846.pdf?src-supplier=Allied+Electronics; ComponentLink8URL: https://datasheet.ciiva.com/1634/1685550-1634396.pdf?src-supplier=Farnell; ComponentLink8Description: https://datasheet.ciiva.com/1634/1685550-1634396.pdf?src-supplier=Farnell; ComponentLink9URL: https://datasheet.ciiva.com/14142/b3u-eng-datasheet-14142540.pdf?src-supplier=Distrelec; ComponentLink9Description: https://datasheet.ciiva.com/14142/b3u-eng-datasheet-14142540.pdf?src-supplier=Distrelec; ComponentLink10URL: https://datasheet.ciiva.com/1532/1685550-1532680.pdf?src-supplier=Element14; ComponentLink10Description: https://datasheet.ciiva.com/1532/1685550-1532680.pdf?src-supplier=Element14
pins: 1, 2

## USB-MINI-B
designator J?
Conn Mini USB 2.0 Type B RCP 5 POS 0.8mm Solder RA SMD 5 Terminal 1 Port USB OTG T/R; Manufacturer: Molex; Manufacturer Part Number: 67503-1020; Gender: Receptacle; Current Rating: 1A; Connector Type: USB,Receptacle; Number of Ports: 1; Number of Contacts: 5; Shielding: Shielded; Contact Resistance: 50mR; Max Voltage Rating (DC): 3.03kV; Voltage Rating (AC): 30V; Insulation Resistance: 100MR; Data Rate: 480Mbps; USB Standard: USB 2.0; Number of Logic Blocks (LABs): 56480; Number of Logic Elements/Cells: 149500; RAM Size: 7880704b; Number of I/Os: 240; Glow Wire Compliant: Non-compliant; Supplier: Digi-Key; Supplier Part Number: WM5461CT-ND; RoHS: Yes; Category: Headers and Wire Housings; Stock: 18415; Pricing: 1=1.2, 10=0.993, 100=0.8272 (USD); Case/Package: BGA; Contact Plating: Gold; Insulation Color: Black; Contact Material: Bronze,Copper Alloy,Copper; Color: Black,Grey; Housing Material: Nylon; Min Operating Temperature: 0°C; Max Operating Temperature: 50°C; Termination: Solder; Packaging: Tape and Reel; Orientation: Right Angle; Package Quantity: 1; Voltage Rating: 30V; Max Voltage Rating (AC): 30V; Working Voltage: 30V; Number of Positions: 5; Number of Circuits: 5; Number of Rows: 1; Features: Shielded; Series: 67503; Length: 9.9mm; Width: 6.9mm; Pitch: 0.8mm; Depth: 9mm; Terminal Pitch: 0.8mm; Flammability Rating: UL94 V-0; RoHS Compliant: Yes; Lead Free: Lead Free; Reach SVHC Compliant: Unknown; ComponentLink1URL: https://datasheet.ciiva.com/10035/0675031020-io-connectors-10035283.pdf?src-supplier=Avnet; ComponentLink1Description: https://datasheet.ciiva.com/10035/0675031020-io-connectors-10035283.pdf?src-supplier=Avnet; ComponentLink2URL: https://datasheet.ciiva.com/4598/0675031020-io-connectors-172123-4598933.pdf?src-supplier=Mouser; ComponentLink2Description: https://datasheet.ciiva.com/4598/0675031020-io-connectors-172123-4598933.pdf?src-supplier=Mouser; ComponentLink3URL: https://datasheet.ciiva.com/11731/0900766b812b4bc6-11731385.pdf?src-supplier=Rs; ComponentLink3Description: https://datasheet.ciiva.com/11731/0900766b812b4bc6-11731385.pdf?src-supplier=Rs; ComponentLink4URL: https://datasheet.ciiva.com/1099/1827209-1099037.pdf?src-supplier=Element14; ComponentLink4Description: https://datasheet.ciiva.com/1099/1827209-1099037.pdf?src-supplier=Element14; ComponentLink5URL: https://datasheet.ciiva.com/26945/getdatasheetpartid-786372-26945705.pdf?src-supplier=Verical; ComponentLink5Description: https://datasheet.ciiva.com/26945/getdatasheetpartid-786372-26945705.pdf?src-supplier=Verical; ComponentLink6URL: https://datasheet.ciiva.com/16143/1693580675031020-io-nectors-16143316.pdf?src-supplier=Onlinecomponents.com; ComponentLink6Description: https://datasheet.ciiva.com/16143/1693580675031020-io-nectors-16143316.pdf?src-supplier=Onlinecomponents.com; ComponentLink7URL: https://datasheet.ciiva.com/3094/0675031020-io-connectors-3094391.pdf?src-supplier=Avnet; ComponentLink7Description: https://datasheet.ciiva.com/3094/0675031020-io-connectors-3094391.pdf?src-supplier=Avnet; ComponentLink8URL: https://datasheet.ciiva.com/46385/1862938-46385125.pdf?src-supplier=Element14; ComponentLink8Description: https://datasheet.ciiva.com/46385/1862938-46385125.pdf?src-supplier=Element14; ComponentLink9URL: https://datasheet.ciiva.com/46385/1739445-46385126.pdf?src-supplier=Element14; ComponentLink9Description: https://datasheet.ciiva.com/46385/1739445-46385126.pdf?src-supplier=Element14; ComponentLink10URL: https://datasheet.ciiva.com/15181/getdatasheetpartid-111434-15181162.pdf?src-supplier=Verical; ComponentLink10Description: https://datasheet.ciiva.com/15181/getdatasheetpartid-111434-15181162.pdf?src-supplier=Verical
pins: 1 VBUS (power), 2 D- (io), 3 D+ (io), 4 ID, 5 GND (power), 6 SH4 (power), 7 SH3 (power), 8 SH2 (power), 9 SH1 (power)

## XTAL-16MHz
designator Y?, comment 16MHz
Crystal 16MHz ±20ppm (Tol) ±50ppm (Stability) 18pF FUND 40Ohm 2-Pin HC-49/US SMD T/R; Manufacturer: Abracon; Manufacturer Part Number: ABLS-16.000MHZ-B2-T; ESR (Equivalent Series Resistance): 40R; Supplier: Digi-Key; Supplier Part Number: 535-9071-1-ND; RoHS: Yes; Category: Crystals; Stock: 5314; Pricing: 1=0.26, 10=0.215, 50=0.1932, 100=0.1718, 500=0.16324 (USD); Mounting Technology: Surface Mount; Case/Package: SMD/SMT; Min Operating Temperature: -20°C; Max Operating Temperature: 70°C; Frequency: 16MHz; Load Capacitance: 18pF; Packaging: Tape and Reel; Frequency Tolerance: 20ppm; Package Quantity: 1000; Tolerance: 20ppm; Frequency Stability: 50ppm; Termination: SMD/SMT; ESR: 40R; Series: ABLS; Operating Frequency: 16 MHz; Length: 11.4mm; Width: 4.7mm; Height: 4.2mm; Depth: 4.7mm; Radiation Hardening: No; Reach SVHC Compliant: Yes; Lead Free: Lead Free; ComponentLink1URL: https://datasheet.ciiva.com/15116/getdatasheetpartid-719912-15116790.pdf?src-supplier=Verical; ComponentLink1Description: https://datasheet.ciiva.com/15116/getdatasheetpartid-719912-15116790.pdf?src-supplier=Verical; ComponentLink2URL: https://datasheet.ciiva.com/16373/abls-16373302.pdf?src-supplier=Future+Electronics; ComponentLink2Description: https://datasheet.ciiva.com/16373/abls-16373302.pdf?src-supplier=Future+Electronics; ComponentLink3URL: https://datasheet.ciiva.com/4944/abls-44621-4944490.pdf?src-supplier=Mouser; ComponentLink3Description: https://datasheet.ciiva.com/4944/abls-44621-4944490.pdf?src-supplier=Mouser; ComponentLink4URL: https://datasheet.ciiva.com/854/abls-854315.pdf?src-supplier=Digi-Key; ComponentLink4Description: https://datasheet.ciiva.com/854/abls-854315.pdf?src-supplier=Digi-Key; ComponentLink5URL: https://datasheet.ciiva.com/854/abls-854316.pdf?src-supplier=Digi-Key; ComponentLink5Description: https://datasheet.ciiva.com/854/abls-854316.pdf?src-supplier=Digi-Key; ComponentLink6URL: https://datasheet.ciiva.com/854/abls-854317.pdf?src-supplier=Digi-Key; ComponentLink6Description: https://datasheet.ciiva.com/854/abls-854317.pdf?src-supplier=Digi-Key; ComponentLink7URL: https://datasheet.ciiva.com/7998/abls-7998428.pdf?src-supplier=Element14; ComponentLink7Description: https://datasheet.ciiva.com/7998/abls-7998428.pdf?src-supplier=Element14
pins: 1, 2